# Altium footprint library Seeed-OPL-Connector.PCBLIB: 183 footprints (part 6 of 12)
Each footprint in its own frame and in the unit in brackets; x right, y up, seen from the top. Pads: shape width x height; smd on the part's side, far side on the other; paste and mask are expansions set on the pad; w line width, h text height; cw(c..) or ccw(c..) is an arc to the next point about the centre after c.
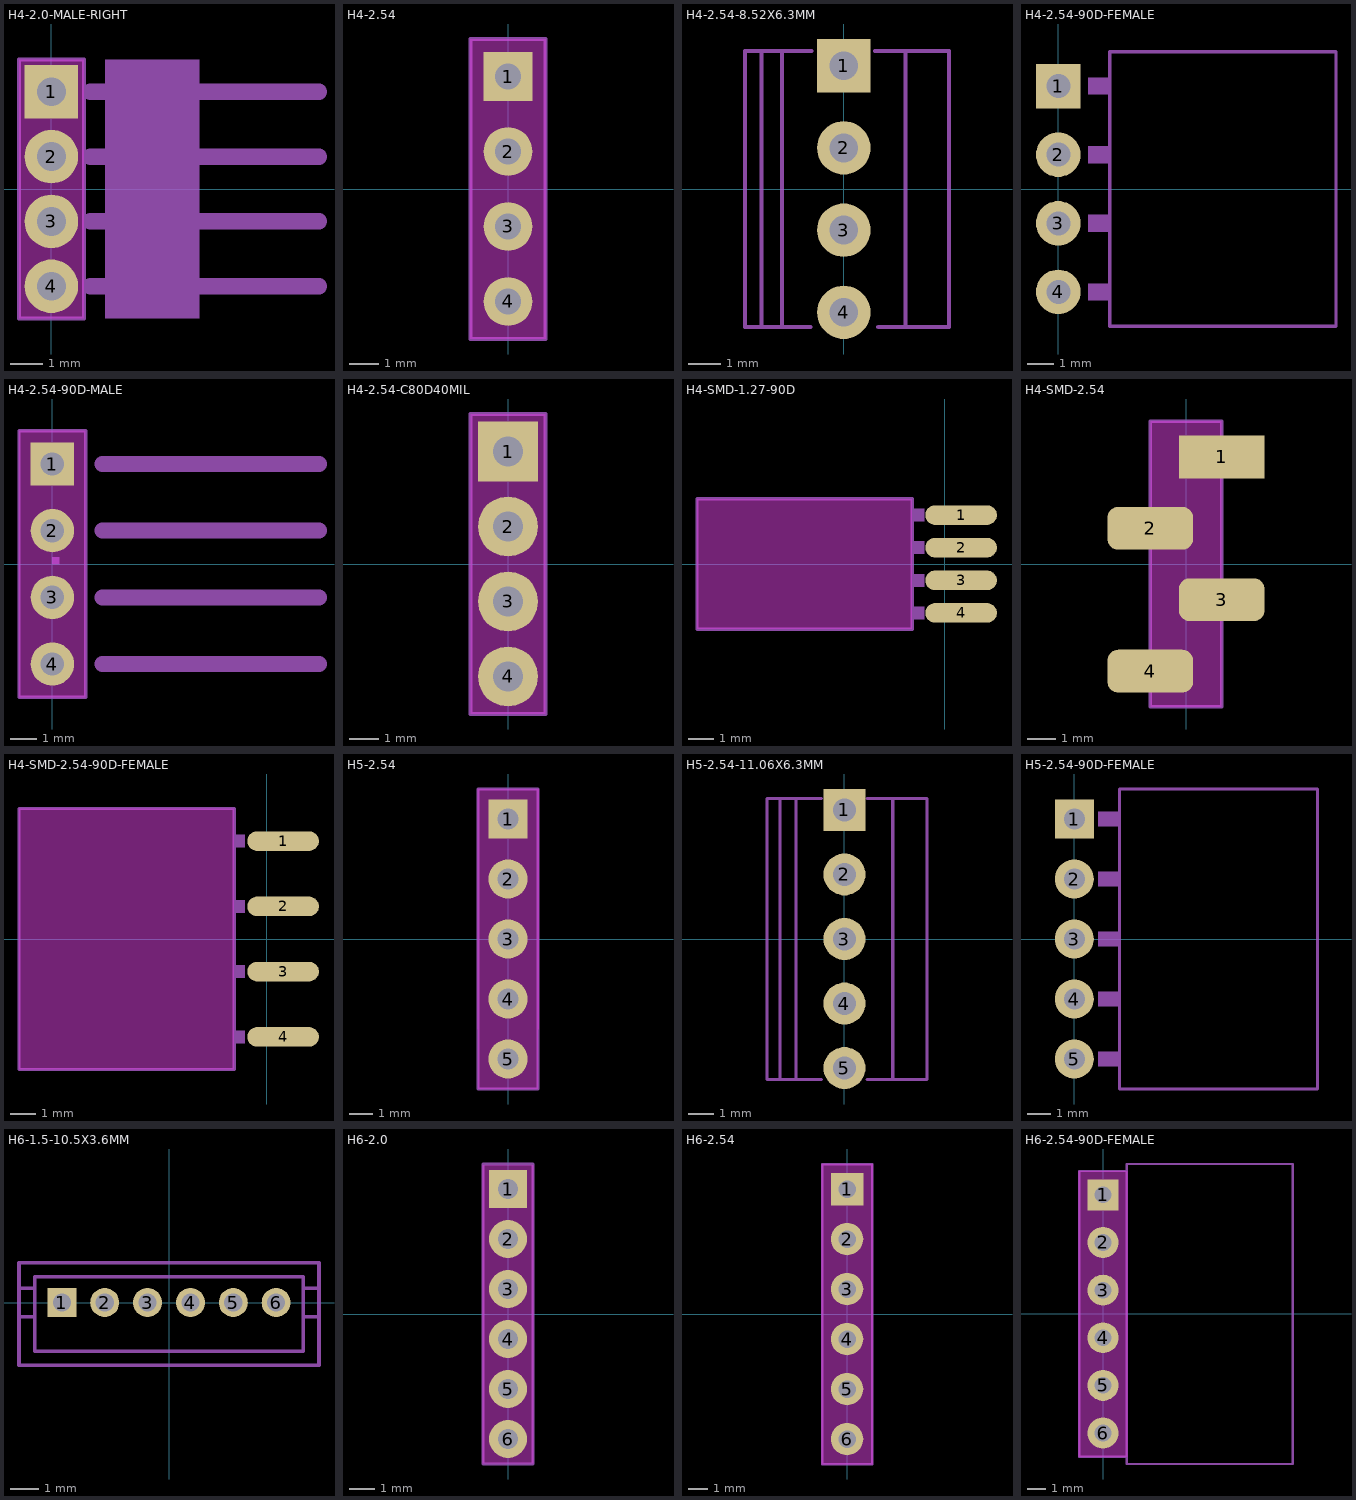
[diagram p5: the footprints below, top view; thin cyan lines are the x and y axes]

## H4-2.0-MALE-RIGHT [mil]
pads (4):
  rect 65x65 hole 35: 1(0,118.11)
  round 65 hole 35: 2(0,39.37) 3(0,-39.37) 4(0,-118.11)
Keep-Out Layer:
  rectangle: -39.37,-157.48 39.37,157.48
Mechanical 2:
  rectangle: 65,-157.48 180,157.48
  lines w5: -39.37,-157.48 39.37,-157.48 39.37,157.48 -39.37,157.48 -39.37,-157.48
  lines w20: 47.24,-118.11 65,-118.11 ; 47.24,-39.37 65,-39.37 ; 47.24,39.37 65,39.37 ; 47.24,118.11 65,118.11 ; 180,-118.11 325,-118.11 ; 180,-39.37 325,-39.37 ; 180,39.37 325,39.37 ; 180,118.11 325,118.11

## H4-2.54 [mil]
pads (4):
  rect 65x65 hole 35: 1(0,150)
  round 65 hole 35: 2(0,50) 3(0,-50) 4(0,-150)
Keep-Out Layer:
  rectangle: -50,-200 50,200
  lines w0: -50,-200 50,-200 50,200 -50,200 -50,-200
Mechanical 2:
  lines w5: -50,-200 50,-200 50,200 -50,200 -50,-200

## H4-2.54-8.52X6.3MM [mil]
pads (4):
  rect 65x65 hole 35: 1(0,150)
  round 65 hole 35: 2(0,50) 3(0,-50) 4(0,-150)
Mechanical 2:
  lines w5: -74.8,167.72 -39.37,167.72 ; -40.55,-167.72 -75,-167.72 ; 38.19,167.72 73.62,167.72 ; 41.93,-167.72 75,-167.72 ; -100,-167.72 -120.08,-167.72 -120.08,167.72 -100,167.72 ; -100,-167.72 -75,-167.72 ; -100,-167.72 -100,167.72 ; -100,167.72 -75,167.72 -75,-167.72 ; 75,-167.72 76.38,-167.72 127.95,-167.72 127.95,167.72 75,167.72 75,-167.72

## H4-2.54-90D-FEMALE [mil]
pads (4):
  rect 65x65 hole 35: 1(0,150)
  round 65 hole 35: 2(0,50) 3(0,-50) 4(0,-150)
Mechanical 2:
  rectangle: 43.31,137.5 75,162.5
  rectangle: 43.31,37.5 75,62.5
  rectangle: 43.31,-62.5 75,-37.5
  rectangle: 43.31,-162.5 75,-137.5
  lines w5: 75,-200 405,-200 405,200 75,200 75,-200

## H4-2.54-90D-MALE [mil]
pads (4):
  rect 65x65 hole 35: 1(0,150)
  round 65 hole 35: 2(0,50) 3(0,-50) 4(0,-150)
Keep-Out Layer:
  rectangle: -50,-200 50,200
Mechanical 2:
  region: 0,0 10,0 10,10 0,10
  region: 0,0 10,0 10,10 0,10
  region: 0,0 10,0 10,10 0,10
  region: 0,0 10,0 10,10 0,10
  lines w5: -50,-200 50,-200 50,200 -50,200 -50,-200
  lines w24: 75,-150 400,-150 ; 75,-50 400,-50 ; 75,50 400,50 ; 75,150 400,150

## H4-2.54-C80D40MIL [mil]
pads (4):
  rect 80x80 hole 40: 1(0,150)
  round 80 hole 40: 2(0,50) 3(0,-50) 4(0,-150)
Keep-Out Layer:
  rectangle: -50,-200 50,200
Mechanical 2:
  lines w5: -50,-200 50,-200 50,200 -50,200 -50,-200

## H4-SMD-1.27-90D [mil]
pads (4):
  rrect100% 110x30 smd: 1(25,75) 2(25,25) 3(25,-25) 4(25,-75)
Keep-Out Layer:
  rectangle: -380,-100 -50,100
Mechanical 2:
  rectangle: -50,65 -31.5,85
  rectangle: -50,15 -31.5,35
  rectangle: -50,-35 -31.5,-15
  rectangle: -50,-85 -31.5,-65
  lines w5: -380,-100 -50,-100 -50,100 -380,100 -380,-100

## H4-SMD-2.54 [mil]
pads (4):
  rect 120x60 smd: 1(50,150)
  rrect50% 120x60 smd: 2(-50,50) 3(50,-50) 4(-50,-150)
Keep-Out Layer:
  rectangle: -50,-200 50,200
Mechanical 2:
  lines w5: -50,-185.04 -50,-200 50,-200 50,-82.68 ; -50,-114.17 -50,15.75 ; -50,82.68 -50,200 50,200 50,185.04 ; 50,-15.75 50,114.17
Mechanical 18:
  lines w5: -50,-200 -50,200 ; 50,-200 50,200

## H4-SMD-2.54-90D-FEMALE [mil]
pads (4):
  rrect100% 110x30 smd: 1(25,150) 2(25,50) 3(25,-50) 4(25,-150)
Keep-Out Layer:
  rectangle: -380,-200 -50,200
Mechanical 2:
  rectangle: -50,140 -33.46,160
  rectangle: -50,40 -33.46,60
  rectangle: -50,-60 -33.46,-40
  rectangle: -50,-160 -33.46,-140
  lines w5: -380,-200 -50,-200 -50,200 -380,200 -380,-200

## H5-2.54 [mil]
pads (5):
  rect 65x65 hole 35: 1(0,200)
  round 65 hole 35: 2(0,100) 3(0,0) 4(0,-100) 5(0,-200)
Keep-Out Layer:
  rectangle: -50,-250 50,250
  lines w0: -50,-150 50,-150 50,250 -50,250 -50,-150
Mechanical 2:
  lines w5: -50,-250 50,-250 50,250 -50,250 -50,-250

## H5-2.54-11.06X6.3MM [mil]
pads (5):
  rect 65x65 hole 35: 1(0,200)
  round 65 hole 35: 2(0,100) 3(0,0) 4(0,-100) 5(0,-200)
Mechanical 2:
  lines w5: -35.43,-217.72 -75,-217.72 ; -35.43,217.72 -75,217.72 ; 35.43,-217.72 75,-217.72 ; 35.43,217.72 75,217.72 ; -100,-217.72 -120.08,-217.72 -120.08,217.72 -100,217.72 ; -100,-217.72 -75,-217.72 ; -100,-217.72 -100,217.72 ; -100,217.72 -75,217.72 ; -75,-217.72 -75,217.72 ; 75,-217.72 127.95,-217.72 127.95,217.72 89.57,217.72 75,217.72 ; 75,-217.72 75,217.72

## H5-2.54-90D-FEMALE [mil]
pads (5):
  rect 65x65 hole 35: 1(0,200)
  round 65 hole 35: 2(0,100) 3(0,0) 4(0,-100) 5(0,-200)
Mechanical 2:
  rectangle: 39.37,187.5 75,212.5
  rectangle: 39.37,87.5 75,112.5
  rectangle: 39.37,-12.5 75,12.5
  rectangle: 39.37,-112.5 75,-87.5
  rectangle: 39.37,-212.5 75,-187.5
  lines w5: 75,-250 405,-250 405,250 75,250 75,-250

## H6-1.5-10.5X3.6MM [mil]
pads (6):
  rect 40x40 hole 25: 1(-147.64,0)
  round 40 hole 25: 2(-88.58,0) 3(-29.53,0) 4(29.53,0) 5(88.58,0) 6(147.64,0)
Mechanical 2:
  lines w5: -187.01,-19.69 -206.69,-19.69 ; -187.01,19.69 -206.69,19.69 ; -206.69,-19.69 -206.69,-86.61 206.69,-86.61 206.69,-19.69 ; -206.69,-19.69 -206.69,19.69 ; -206.69,19.69 -206.69,55.12 206.69,55.12 206.69,19.69 ; 185.04,-19.69 185.04,19.69 ; 185.04,-19.69 185.04,-66.93 -185.04,-66.93 -185.04,35.43 185.04,35.43 185.04,19.69 ; 185.04,-19.69 206.69,-19.69 ; 185.04,19.69 206.69,19.69 ; 206.69,-19.69 206.69,19.69

## H6-2.0 [mil]
pads (6):
  rect 60x60 hole 32: 1(0,196.85)
  round 60 hole 32: 2(0,118.11) 3(0,39.37) 4(0,-39.37) 5(0,-118.11) 6(0,-196.85)
Keep-Out Layer:
  rectangle: -40,-235 40,235
Mechanical 2:
  lines w5: -39.37,-236.18 39.37,-236.18 39.37,236.22 -39.37,236.22 -39.37,-236.18

## H6-2.54 [mil]
pads (6):
  rect 65x65 hole 35: 1(0,250)
  round 65 hole 35: 2(0,150) 3(0,50) 4(0,-50) 5(0,-150) 6(0,-250)
Keep-Out Layer:
  rectangle: -50,-300 50,300
  lines w0: -50,-300 50,-300 50,300 -50,300 -50,-300
Mechanical 2:
  lines w5: -50,-300 50,-300 50,300 -50,300 -50,-300

## H6-2.54-90D-FEMALE [mil]
pads (6):
  rect 65x65 hole 35: 1(0,250)
  round 65 hole 35: 2(0,150) 3(0,50) 4(0,-50) 5(0,-150) 6(0,-250)
Keep-Out Layer:
  rectangle: -50,-300 50,300
  lines w0: -50,-300 50,-300 50,300 -50,300 -50,-300
Mechanical 2:
  lines w5: -50,-300 50,-300 50,300 -50,300 -50,-300
Mechanical 16:
  lines w5: 50,-0.24 50,-315 398.43,-315 398.43,-0.24 ; 50,0 50,314.76 398.43,314.76 398.43,0